# Altium footprint library 杂项库.PcbLib: 585 footprints (part 6 of 37)
Each footprint in its own frame and in the unit in brackets; x right, y up, seen from the top. Pads: shape width x height; smd on the part's side, far side on the other; paste and mask are expansions set on the pad; w line width, h text height; cw(c..) or ccw(c..) is an arc to the next point about the centre after c.
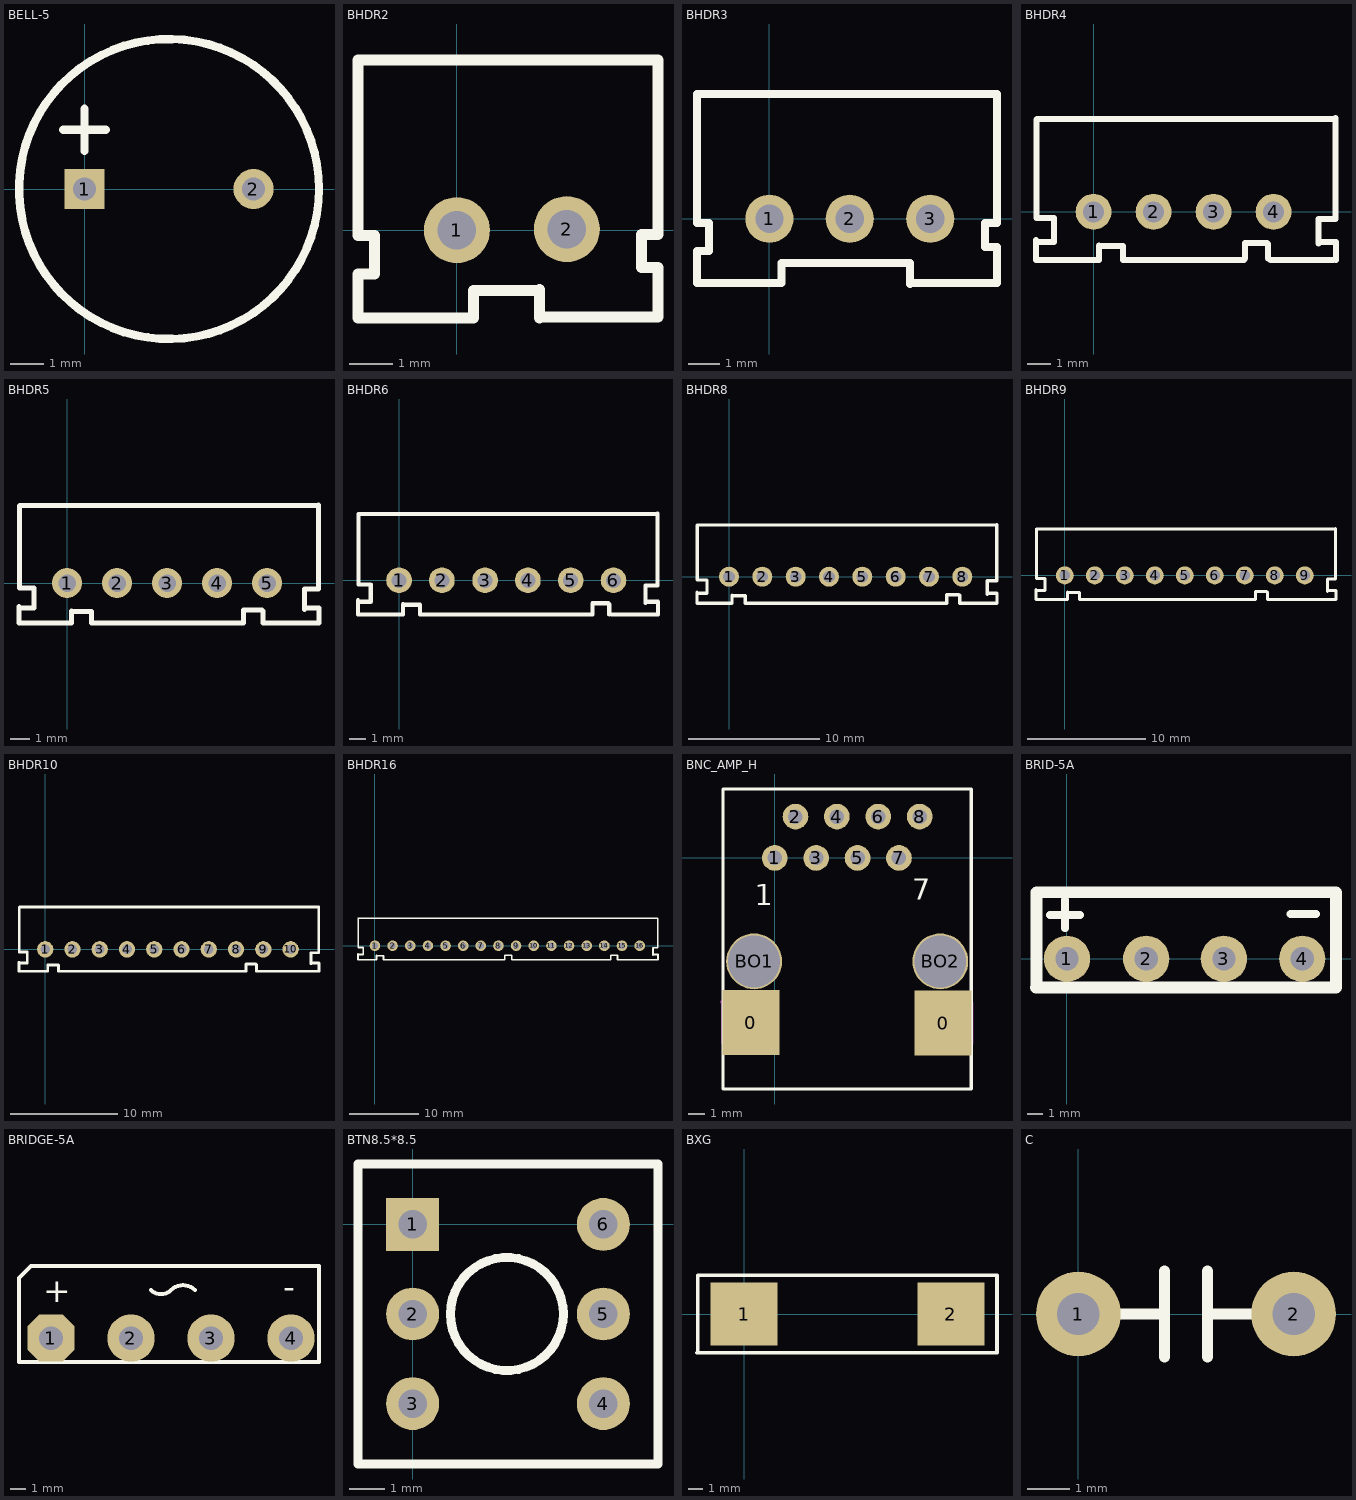
[diagram p5: the footprints below, top view; thin cyan lines are the x and y axes]

## BELL-5 [mm]
pads (2):
  rect 1.2x1.2 hole 0.7: 1(0,0)
  round 1.2 hole 0.7: 2(5.08,0)
Top Overlay:
  circle w0.254: c2.54,0 r4.51
  lines w0.254: -0.635,1.778 0.635,1.778 ; 0,1.143 0,2.413

## BHDR2 [mil]
pads (2):
  round 60 hole 35: 1(0,0) 2(100,1)
Top Overlay:
  lines w10: 75,-55 15,-55 15,-80 -90,-80 -90,-40 -75,-40 -75,-30 -75,-5 -90,-5 -90,155 183,155 183,-4 ; 75,-54 75,-80 76,-79 132,-79 ; 134,-79 95,-79 183,-79 183,-34 168,-34 168,-4 183,-4 ; 183,11 183,-4

## BHDR3 [mil]
pads (3):
  round 60 hole 35: 1(0,0) 2(100,0) 3(200,0)
Top Overlay:
  lines w10: 58,-55 158,-55 ; 85,-55 15,-55 15,-80 -90,-80 -90,-40 -75,-40 -75,-30 -75,-5 -90,-5 -90,155 195,155 283,155 283,-5 ; 124,-55 175,-55 175,-81 176,-80 232,-80 ; 234,-80 195,-80 283,-80 283,-35 268,-35 268,-5 283,-5 ; 283,10 283,-5

## BHDR4 [mil]
pads (4):
  round 60 hole 35: 1(0,0) 2(100,0) 3(200,0) 4(300,0)
Top Overlay:
  lines w10: -96,-50 -66,-50 -66,-10 -95,-10 -95,134 ; -96,-47 -96,-80 ; -95,-79 -96,-80 ; -95,103 -95,154 -94,155 -31,155 ; -73,155 93,155 364,155 ; 200,-80 248,-80 ; 251,-80 49,-80 49,-57 10,-57 9,-56 9,-80 -96,-80 ; 252,-78 252,-52 289,-52 291,-54 291,-78 ; 294,155 401,155 ; 295,-80 400,-80 ; 375,-53 375,-12 403,-12 403,156 ; 375,-50 404,-50 404,-80

## BHDR5 [mil]
pads (5):
  round 60 hole 35: 1(0,0) 2(100,0) 3(200,0) 4(300,0) 5(400,0)
Top Overlay:
  lines w10: -96,-50 -66,-50 -66,-10 -95,-10 -95,134 ; -96,-47 -96,-80 ; -95,-79 -96,-80 ; -95,103 -95,154 -94,155 -31,155 ; -73,155 93,155 ; 82,155 179,155 ; 175,155 341,155 ; 275,155 394,155 501,155 ; 390,-54 353,-54 353,-80 49,-80 49,-57 10,-57 9,-56 9,-80 -96,-80 ; 392,-80 392,-56 ; 395,-80 500,-80 ; 475,-53 475,-12 503,-12 503,156 ; 475,-50 504,-50 504,-80

## BHDR6 [mil]
pads (6):
  round 60 hole 35: 1(0,0) 2(100,0) 3(201,0) 4(301,0) 5(401,0) 6(501,0)
Top Overlay:
  lines w10: -96,-50 -66,-50 -66,-10 -95,-10 -95,134 ; -96,-47 -96,-80 ; -95,-79 -96,-80 ; -95,103 -95,154 -94,155 -31,155 ; -73,155 93,155 ; 82,155 575,155 ; 276,155 442,155 ; 376,155 495,155 602,155 ; 491,-80 491,-56 489,-54 452,-54 452,-80 49,-80 49,-57 10,-57 9,-56 9,-80 -96,-80 ; 496,-80 601,-80 ; 576,-53 576,-12 604,-12 604,156 ; 576,-50 605,-50 605,-80

## BHDR8 [mil]
pads (8):
  round 60 hole 35: 1(0,0) 2(100,0) 3(200,0) 4(300,0) 5(400,0) 6(500,0) 7(600,0) 8(700,0)
Top Overlay:
  lines w10: -96,-50 -66,-50 -66,-10 -95,-10 -95,134 ; -96,-47 -96,-80 ; -95,-79 -96,-80 ; -95,103 -95,154 -94,155 -31,155 ; -73,155 93,155 ; 82,155 575,155 694,155 801,155 ; 168,155 439,155 ; 200,-80 248,-80 ; 371,-80 653,-80 653,-54 690,-54 692,-56 692,-80 ; 458,-80 49,-80 49,-57 10,-57 9,-56 9,-80 -96,-80 ; 475,155 641,155 ; 695,-80 800,-80 ; 775,-53 775,-12 803,-12 803,156 ; 775,-50 804,-50 804,-80

## BHDR9 [mil]
pads (9):
  round 60 hole 35: 1(0,0) 2(100,0) 3(200,0) 4(300,0) 5(400,0) 6(500,0) 7(600,0) 8(700,0) 9(800,0)
Top Overlay:
  lines w10: -96,-50 -66,-50 -66,-10 -95,-10 -95,134 ; -96,-47 -96,-80 ; -95,-79 -96,-80 ; -95,103 -95,154 -94,155 -31,155 ; -73,155 93,155 ; 82,155 575,155 741,155 ; 168,155 439,155 ; 200,-80 248,-80 ; 371,-80 636,-80 636,-54 673,-54 675,-56 675,-80 774,-80 ; 458,-80 49,-80 49,-57 10,-57 9,-56 9,-80 -96,-80 ; 675,155 794,155 901,155 ; 743,-80 795,-80 900,-80 ; 875,-53 875,-12 903,-12 903,156 ; 875,-50 904,-50 904,-80

## BHDR10 [mil]
pads (10):
  round 60 hole 35: 1(0,0) 2(100,0) 3(200,0) 4(300,0) 5(400,0) 6(500,0) 7(600,0) 8(700,0) 9(800,0) 10(900,0)
Top Overlay:
  lines w10: -96,-50 -66,-50 -66,-10 -95,-10 -95,134 ; -96,-47 -96,-80 ; -95,-79 -96,-80 ; -95,103 -95,154 -94,155 -31,155 ; -73,155 93,155 ; 82,155 675,155 841,155 ; 168,155 439,155 ; 200,-80 248,-80 ; 371,-80 736,-80 736,-54 773,-54 775,-56 775,-80 874,-80 ; 458,-80 49,-80 49,-57 10,-57 9,-56 9,-80 -96,-80 ; 775,155 894,155 1001,155 ; 843,-80 895,-80 1000,-80 ; 975,-53 975,-12 1003,-12 1003,156 ; 975,-50 1004,-50 1004,-80

## BHDR16 [mil]
pads (16):
  round 60 hole 35: 1(0,0) 2(100,0) 3(200,0) 4(300,0) 5(400,0) 6(500,0) 7(600,0) 8(700,0) 9(800,0) 10(900,0) 11(1000,0) 12(1100,0) 13(1200,0) 14(1300,0) 15(1400,0) 16(1500,0)
Top Overlay:
  lines w10: -96,-50 -66,-50 -66,-10 -95,-10 -95,134 ; -96,-47 -96,-80 ; -95,-79 -96,-80 ; -95,103 -95,154 -94,155 -31,155 ; -73,155 93,155 ; 82,155 675,155 841,155 ; 168,155 439,155 ; 200,-80 248,-80 ; 371,-80 736,-80 736,-54 773,-54 775,-56 775,-80 874,-80 ; 458,-80 49,-80 49,-57 10,-57 9,-56 9,-80 -96,-80 ; 775,155 894,155 1295,155 ; 843,-80 895,-80 1000,-80 ; 971,-80 1336,-80 1336,-54 1373,-54 1375,-56 1375,-80 1474,-80 ; 1275,155 1441,155 ; 1375,155 1494,155 1601,155 ; 1443,-80 1495,-80 1600,-80 ; 1575,-53 1575,-12 1603,-12 1603,156 ; 1575,-50 1604,-50 1604,-80

## BNC_AMP_H [mil]
pads (12):
  rect 137.79x157.48 all layers, no hole: 0(-58,-398) 0(407,-399)
  round 62 hole 35: 1(0,0) 2(50,100) 3(100,0) 4(150,100) 5(200,0) 6(250,100) 7(300,0) 8(350,100)
  round 135 hole 125: BO1(-50,-250) BO2(400,-250)
Top Overlay:
  lines w8: -125,-558.33 -125,166.67 475,166.67 475,-558.33 -125,-558.33
  text "1" at -47.84,-114.13 h50
  text "7" at 332.45,-101.06 h50
Keep-Out Layer:
  lines w10: -127,-348 -80,-348 -79,-349 -79,-447 -80,-448 -123,-448 -125,-446 -125,-348 ; 427,-349 474,-349 475,-350 475,-448 474,-449 431,-449 429,-447 429,-349 ; 467,-349 470,-352

## BRID-5A [mm]
pads (4):
  round 3 hole 1.5: 1(0,0) 2(5.131,0) 3(10.16,0) 4(15.24,0)
Top Overlay:
  lines w0.508: -1.092,2.845 0.838,2.845 ; -0.127,1.981 -0.127,3.81 ; 0.127,4.42 0.381,4.42 ; 14.478,2.896 16.129,2.896
  lines w0.762: -2.007,-1.854 17.424,-1.854 17.424,4.293 17.399,4.318 -1.981,4.318 -1.981,-1.854 -2.007,-1.854

## BRIDGE-5A [mm]
pads (4):
  oct 3x3 hole 1.5: 1(-26.416,187.198)
  round 3 hole 1.5: 2(-21.336,187.198) 3(-16.256,187.198) 4(-11.176,187.198)
Top Overlay:
  lines w0.254: -20.066,190.246 ccw(c-19.431,190.881) -18.796,190.246 cw(c-18.034,189.484) -17.272,190.246 ; -28.448,185.674 -9.398,185.674 -9.398,191.77 -26.67,191.77 -27.686,191.77 -28.448,191.008 -28.448,189.992 -28.448,185.674
  text "+" at -26.924,189.484 h1.52
  text "-" at -11.684,189.738 h1.52

## BTN8.5*8.5 [mm]
pads (6):
  rect 1.5x1.5 hole 0.8: 1(0,0)
  round 1.5 hole 0.8: 2(0,-2.54) 3(0,-5.08) 4(5.4,-5.08) 5(5.4,-2.54) 6(5.4,0)
Top Overlay:
  circle w0.254: c2.667,-2.54 r1.6
  lines w0.254: -1.55,-6.79 6.95,-6.79 6.95,1.71 -1.55,1.71 -1.55,-6.79

## BXG [mm]
pads (2):
  rect 4.8x4.5 smd: 1(0,0) 2(14.796,0)
Top Overlay:
  lines w0.254: -3.374,-2.749 17.895,-2.749 18.095,-2.749 18.095,-2.549 18.095,2.774 -3.324,2.774 -3.324,-2.699 -3.374,-2.749

## C [mm]
pads (2):
  round 2 hole 1: 1(0,0) 2(5.08,0)
Top Overlay:
  lines w0.254: 1.016,0 1.524,0 2.032,0 2.032,-1.016 2.032,1.016 ; 3.048,-1.016 3.048,1.016 ; 3.048,0 4.064,0